# EAGLE library part MK3DS1/6-3,81 (library untitled)
18-polige, dreistckige Reihenklemme im Raster 3.81mm Typ Phoenix MK3DS 1/6-3,81, Artikelnummer 1727777
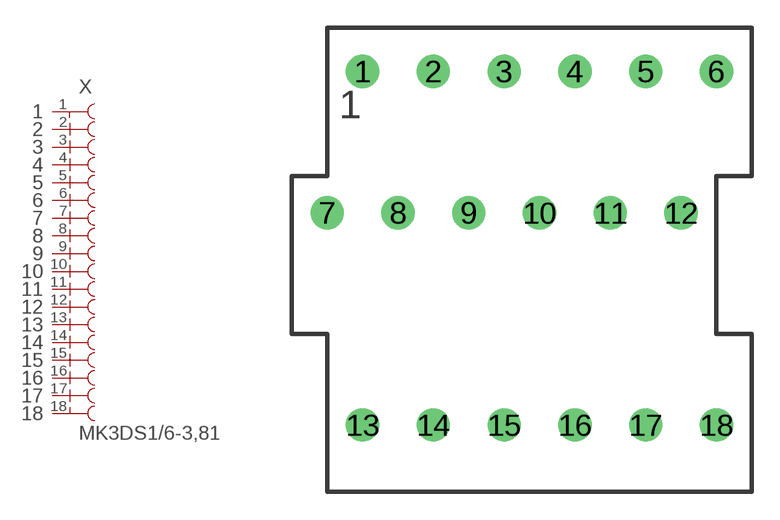
[diagram p4: symbol with the pads of MK3DS1/6; footprint MK3DS1/6]

Designator prefix X

## MK3DS1/6-3,81  [MK3DS1/6]
1  1  pas
2  2  pas
3  3  pas
4  4  pas
5  5  pas
6  6  pas
7  7  pas
8  8  pas
9  9  pas
10  10  pas
11  11  pas
12  12  pas
13  13  pas
14  14  pas
15  15  pas
16  16  pas
17  17  pas
18  18  pas

## Footprint MK3DS1/6 (pad centres in mm)
18-polige, dreistckige Reihenklemme Phoenix MK3DS1/6
drill 1.194 pad 1.778 round: 1 0,19.05; 2 3.81,19.05; 3 7.62,19.05; 4 11.43,19.05; 5 15.24,19.05; 6 19.05,19.05; 7 -1.905,11.43; 8 1.905,11.43; 9 5.715,11.43; 10 9.525,11.43; 11 13.335,11.43; 12 17.145,11.43; 13 0,0; 14 3.81,0; 15 7.62,0; 16 11.43,0; 17 15.24,0; 18 19.05,0